# Altium schematic symbol library pre_RESISTOR.SchLib: 11 symbols
Pins are listed as number, name and electrical type; pins without a type are passive.

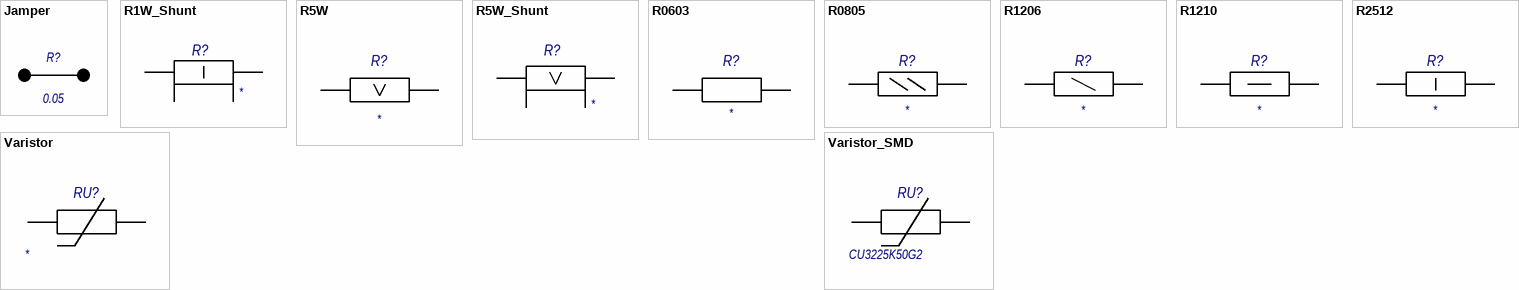
[diagram p0: symbols Jamper to Varistor_SMD]

## Jamper
designator R?, comment value 0.05  (hidden comment: 1À (max 2À))
SMD Zero Ohm Jumper < 0.05 ?, R0603 1-2A, R0805 2-5A, R1206 2-10A; Current_0805: 2À (max 5À); Current_1206: 2À (max 10À); Current_0603: 1À (max 2À)
footprint R0603 (Chip Resistor, 2-Leads, Body 1,60x0,80mm, IPC Medium Density)
footprint R0805
footprint R1206
simulation model RES (Default semiconductor resistor)
signal-integrity model JamperSMD
pins: 1, 2

## R1W_Shunt
designator R?
Value: *
footprint R2512sh
pins: 1, 2, 3, 4

## R5W
designator R?
Value: *
footprint SQP-5
footprint PWR4412-2S D
footprint WSR
pins: 1, 2

## R5W_Shunt
designator R?
Value: *
footprint WSR_SH
pins: 1, 2, 3, 4

## R0603
designator R?, comment * ±5%  (value not drawn)
Precision: ±5%; Value: *
footprint R0603 (Chip Resistor, 2-Leads, Body 1,60x0,80mm, IPC Medium Density)
pins: 1, 2

## R0805
designator R?, comment * ±5%  (value not drawn)
Precision: ±5%; Value: *
footprint R0805
pins: 1, 2

## R1206
designator R?, comment * ±5%  (value not drawn)
Precision: ±5%; Value: *
footprint R1206
pins: 1, 2

## R1210
designator R?, comment * ±5%  (value not drawn)
Precision: ±5%; Value: *
footprint R1210
pins: 1, 2

## R2512
designator R?, comment * ±5%  (value not drawn)
Precision: ±5%; Value: *
footprint R2512
pins: 1, 2

## Varistor
designator RU?
Value: *; Type: *
footprint S14K460
footprint S20K460
pins: 1, 2

## Varistor_SMD
designator RU?  Type: CU3225K50G2  (hidden comment: *)
Value: *
footprint Varistor SMD (Molded Varistor, 2-Leads, Body 8,00x6,30mm)
footprint Varistor SMD_4032 (Molded Varistor, 2-Leads, Body 10,20x8,00mm)
pins: 1, 2